# Altium schematic symbol library SC16IS740IPW.Schlib: 1 symbol
Pins are listed as number, name and electrical type; pins without a type are passive.

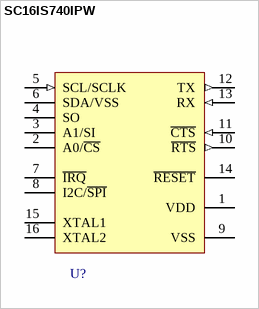
[diagram p0: symbol SC16IS740IPW]

## SC16IS740IPW
designator U?
Single UART with I2C-bus/SPI interface, 64 bytes of transmit and receive FIFOs, IrDA SIR built-in support
pins: 1 VDD (power), 2 A0/~{CS}, 3 A1/SI, 4 SO, 5 SCL/SCLK (in), 6 SDA/VSS, 7 ~{IRQ}, 8 I2C/~{SPI}, 9 VSS (power), 10 ~{RTS} (out), 11 ~{CTS} (in), 12 TX (out), 13 RX (in), 14 ~{RESET}, 15 XTAL1, 16 XTAL2